# Altium schematic symbol library TVS.SchLib: 34 symbols
Pins are listed as number, name and electrical type; pins without a type are passive.

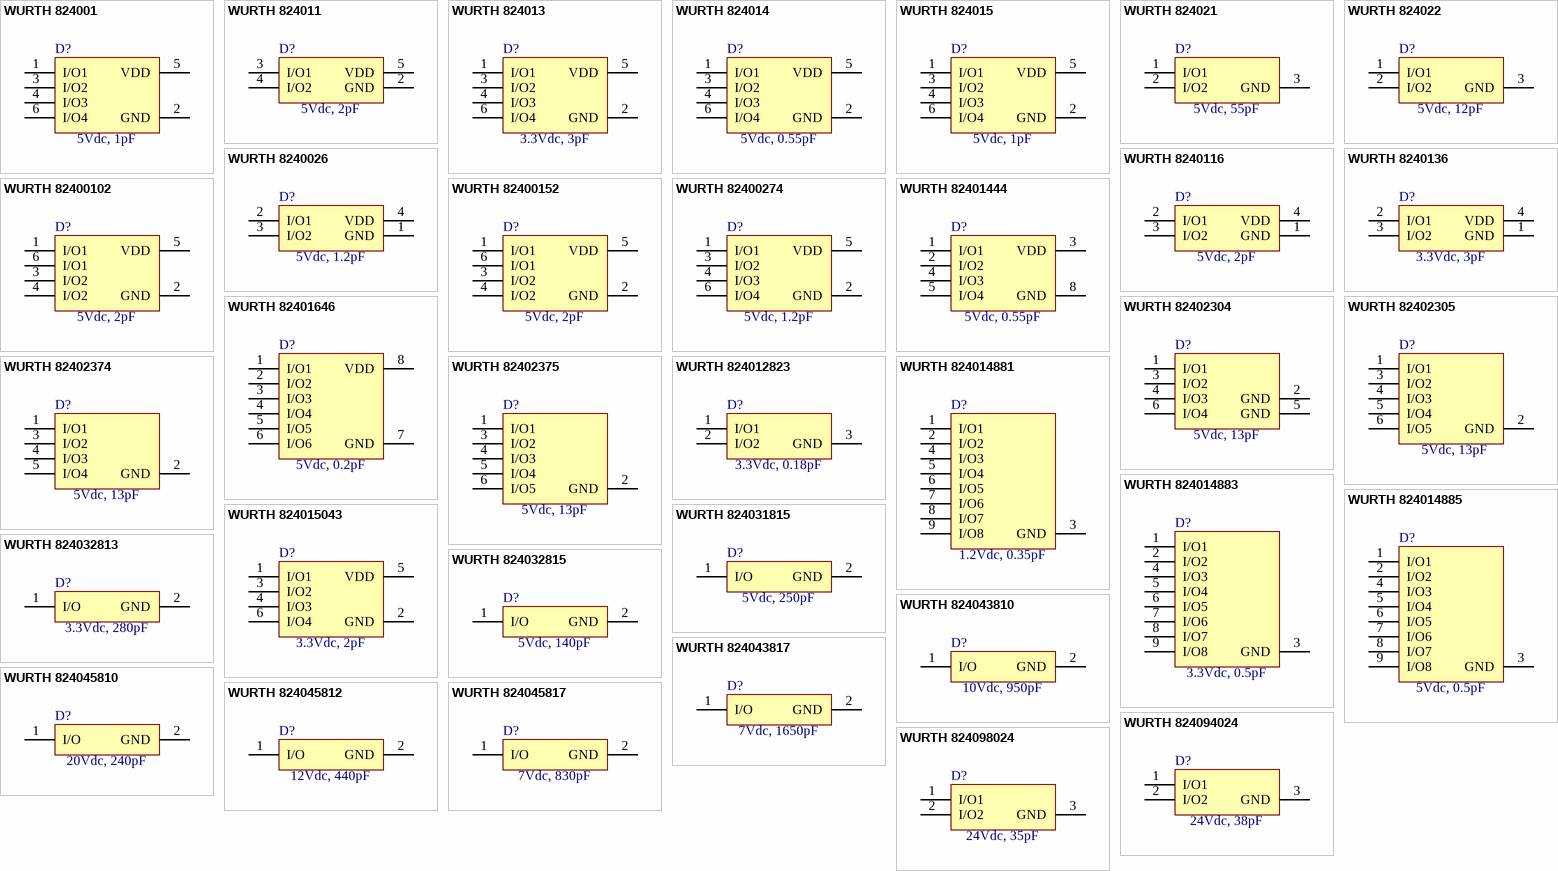
[diagram p0: symbols WURTH 824001 to WURTH 824098024]

## WURTH 824001
designator D?, comment 5Vdc, 1pF
WE-TVS TVS Diode – High Speed Series, SOT23-6L, 4+1 Channel, 5Vdc, 1pF; Manufacturer Part Number: 824001; Manufacturer: Wurth Elektronik; Reverse Peak Pulse Current: 5A; Channel ESD Clamping Voltage: 14V; Channel Operating Voltage: 5V; Channel Reverse Leakage Current: 2uA; ESD Air Discharge Capability: 15kV; ESD Contact Discharge Capability: 8kV; Polarity: Unidirectional; Reverse Breakdown Voltage: 6.2V; ComponentLink1Description: Manufacturer Link; ComponentLink1URL: http://www.we-online.de; ComponentLink2Description: Datasheet; ComponentLink2URL: https://www.we-online.com/catalog/datasheet/824001.pdf; Size: SOT23-6L; Mounting Technology: SMT; Packaging: Tape and Reel; Channel Input Capacitance: 1pF; Channel Number: 4+1; Height: 1.45mm; Length: 2.9mm; Operating Temperature max.: 125C; Operating Temperature min.: -40C; Width: 2.8mm
footprint WE-TVS_SOT23-6L
pins: 1 I/O1, 2 GND, 3 I/O2, 4 I/O3, 5 VDD, 6 I/O4

## WURTH 824011
designator D?, comment 5Vdc, 2pF
WE-TVS TVS Diode – High Speed Series, SOT23-5L, 2+1 Channel, 5Vdc, 2pF; Manufacturer Part Number: 824011; Manufacturer: Wurth Elektronik; Reverse Peak Pulse Current: 13A; Channel ESD Clamping Voltage: 13V; Channel Operating Voltage: 5V; Channel Reverse Leakage Current: 1uA; ESD Air Discharge Capability: 24kV; ESD Contact Discharge Capability: 16kV; Polarity: Unidirectional; Reverse Breakdown Voltage: 6.1V; ComponentLink1Description: Manufacturer Link; ComponentLink1URL: http://www.we-online.de; ComponentLink2Description: Datasheet; ComponentLink2URL: https://www.we-online.com/catalog/datasheet/824011.pdf; Size: SOT23-5L; Mounting Technology: SMT; Packaging: Tape and Reel; Channel Input Capacitance: 2pF; Channel Number: 2+1; Height: 1.16mm; Length: 2.9mm; Operating Temperature max.: 125C; Operating Temperature min.: -55C; Width: 2.8mm
footprint WE-TVS_SOT23-5L
pins: 2 GND, 3 I/O1, 4 I/O2, 5 VDD

## WURTH 824013
designator D?, comment 3.3Vdc, 3pF
WE-TVS TVS Diode – High Speed Series, SOT23-6L, 4+1 Channel, 3.3Vdc, 3pF; Manufacturer Part Number: 824013; Manufacturer: Wurth Elektronik; Reverse Peak Pulse Current: 12A; Channel ESD Clamping Voltage: 9V; Channel Operating Voltage: 3.3V; Channel Reverse Leakage Current: 1uA; ESD Air Discharge Capability: 30kV; ESD Contact Discharge Capability: 24kV; Polarity: Unidirectional; Reverse Breakdown Voltage: 4.5V; ComponentLink1Description: Manufacturer Link; ComponentLink1URL: http://www.we-online.de; ComponentLink2Description: Datasheet; ComponentLink2URL: https://www.we-online.com/catalog/datasheet/824013.pdf; Size: SOT23-6L; Mounting Technology: SMT; Packaging: Tape and Reel; Channel Input Capacitance: 3pF; Channel Number: 4+1; Height: 1.45mm; Length: 2.9mm; Operating Temperature max.: 125C; Operating Temperature min.: -40C; Width: 2.8mm
footprint WE-TVS_SOT23-6L
pins: 1 I/O1, 2 GND, 3 I/O2, 4 I/O3, 5 VDD, 6 I/O4

## WURTH 824014
designator D?, comment 5Vdc, 0.55pF
WE-TVS TVS Diode – Super Speed Series, SOT23-6L, 4+1 Channel, 5Vdc, 0.55pF; Manufacturer Part Number: 824014; Manufacturer: Wurth Elektronik; Reverse Peak Pulse Current: 4A; Channel ESD Clamping Voltage: 12V; Channel Operating Voltage: 5V; Channel Reverse Leakage Current: 1uA; ESD Air Discharge Capability: 16kV; ESD Contact Discharge Capability: 10kV; Polarity: Unidirectional; Reverse Breakdown Voltage: 6V; ComponentLink1Description: Manufacturer Link; ComponentLink1URL: http://www.we-online.de; ComponentLink2Description: Datasheet; ComponentLink2URL: https://www.we-online.com/catalog/datasheet/824014.pdf; Size: SOT23-6L; Mounting Technology: SMT; Packaging: Tape and Reel; Channel Input Capacitance: 0.55pF; Channel Number: 4+1; Height: 1.45mm; Length: 2.9mm; Operating Temperature max.: 85C; Operating Temperature min.: -55C; Width: 2.8mm
footprint WE-TVS_SOT23-6L
pins: 1 I/O1, 2 GND, 3 I/O2, 4 I/O3, 5 VDD, 6 I/O4

## WURTH 824015
designator D?, comment 5Vdc, 1pF
WE-TVS TVS Diode – High Speed Series, SOT23-6L, 4+1 Channel, 5Vdc, 1pF; Manufacturer Part Number: 824015; Manufacturer: Wurth Elektronik; Reverse Peak Pulse Current: 12A; Channel ESD Clamping Voltage: 13V; Channel Operating Voltage: 5V; Channel Reverse Leakage Current: 1uA; ESD Air Discharge Capability: 20kV; ESD Contact Discharge Capability: 12kV; Polarity: Unidirectional; Reverse Breakdown Voltage: 6.1V; ComponentLink1Description: Manufacturer Link; ComponentLink1URL: http://www.we-online.de; ComponentLink2Description: Datasheet; ComponentLink2URL: https://www.we-online.com/catalog/datasheet/824015.pdf; Size: SOT23-6L; Mounting Technology: SMT; Packaging: Tape and Reel; Channel Input Capacitance: 1pF; Channel Number: 4+1; Height: 1.45mm; Length: 2.9mm; Operating Temperature max.: 125C; Operating Temperature min.: -40C; Width: 2.8mm
footprint WE-TVS_SOT23-6L
pins: 1 I/O1, 2 GND, 3 I/O2, 4 I/O3, 5 VDD, 6 I/O4

## WURTH 824021
designator D?, comment 5Vdc, 55pF
WE-TVS TVS Diode – Standard Series, SOT23-3L, 2 Channel, 5Vdc, 55pF; Manufacturer Part Number: 824021; Manufacturer: Wurth Elektronik; Reverse Peak Pulse Current: 15A; Channel ESD Clamping Voltage: 10V; Channel Number: 2; Channel Operating Voltage: 5V; Channel Reverse Leakage Current: 2.5uA; ESD Air Discharge Capability: 30kV; ESD Contact Discharge Capability: 18kV; Polarity: Unidirectional; Reverse Breakdown Voltage: 6.1V; ComponentLink1Description: Manufacturer Link; ComponentLink1URL: http://www.we-online.de; ComponentLink2Description: Datasheet; ComponentLink2URL: https://www.we-online.com/catalog/datasheet/824021.pdf; Size: SOT23-3L; Mounting Technology: SMT; Packaging: Tape and Reel; Channel Input Capacitance: 55pF; Height: 1.1mm; Length: 2.9mm; Operating Temperature max.: 125C; Operating Temperature min.: -55C; Width: 2.4mm
footprint WE-TVS_SOT23-3L
pins: 1 I/O1, 2 I/O2, 3 GND

## WURTH 824022
designator D?, comment 5Vdc, 12pF
WE-TVS TVS Diode – Standard Series, SOT23-3L, 2 Channel, 5Vdc, 12pF; Manufacturer Part Number: 824022; Manufacturer: Wurth Elektronik; Reverse Peak Pulse Current: 8A; Channel ESD Clamping Voltage: 9V; Channel Number: 2; Channel Operating Voltage: 5V; Channel Reverse Leakage Current: 2.5uA; ESD Air Discharge Capability: 20kV; ESD Contact Discharge Capability: 12kV; Polarity: Bidirectional; Reverse Breakdown Voltage: 6.1V; ComponentLink1Description: Manufacturer Link; ComponentLink1URL: http://www.we-online.de; ComponentLink2Description: Datasheet; ComponentLink2URL: https://www.we-online.com/catalog/datasheet/824022.pdf; Size: SOT23-3L; Mounting Technology: SMT; Packaging: Tape and Reel; Channel Input Capacitance: 12pF; Height: 1.1mm; Length: 2.9mm; Operating Temperature max.: 125C; Operating Temperature min.: -55C; Width: 2.4mm
footprint WE-TVS_SOT23-3L
pins: 1 I/O1, 2 I/O2, 3 GND

## WURTH 8240026
designator D?, comment 5Vdc, 1.2pF
WE-TVS TVS Diode – High Speed Series, SOT143-4L, 2+1 Channel, 5Vdc, 1.2pF; Manufacturer Part Number: 8240026; Manufacturer: Wurth Elektronik; Reverse Peak Pulse Current: 6A; Channel ESD Clamping Voltage: 12.5V; Channel Operating Voltage: 5V; Channel Reverse Leakage Current: 1uA; ESD Air Discharge Capability: 16kV; ESD Contact Discharge Capability: 12kV; Polarity: Unidirectional; Reverse Breakdown Voltage: 6V; ComponentLink1Description: Manufacturer Link; ComponentLink1URL: http://www.we-online.de; ComponentLink2Description: Datasheet; ComponentLink2URL: https://www.we-online.com/catalog/datasheet/8240026.pdf; Size: SOT143-4L; Mounting Technology: SMT; Packaging: Tape and Reel; Channel Input Capacitance: 1.2pF; Channel Number: 2+1; Height: 1.08mm; Length: 2.95mm; Operating Temperature max.: 125C; Operating Temperature min.: -55C; Width: 2.4mm
footprint WE-TVS_SOT143-4L
pins: 1 GND, 2 I/O1, 3 I/O2, 4 VDD

## WURTH 8240116
designator D?, comment 5Vdc, 2pF
WE-TVS TVS Diode – High Speed Series, SOT143-4L, 2+1 Channel, 5Vdc, 2pF; Manufacturer Part Number: 8240116; Manufacturer: Wurth Elektronik; Reverse Peak Pulse Current: 12A; Channel ESD Clamping Voltage: 13V; Channel Operating Voltage: 5V; Channel Reverse Leakage Current: 1uA; ESD Air Discharge Capability: 20kV; ESD Contact Discharge Capability: 12kV; Polarity: Unidirectional; Reverse Breakdown Voltage: 6.1V; ComponentLink1Description: Manufacturer Link; ComponentLink1URL: http://www.we-online.de; ComponentLink2Description: Datasheet; ComponentLink2URL: https://www.we-online.com/catalog/datasheet/8240116.pdf; Size: SOT143-4L; Mounting Technology: SMT; Packaging: Tape and Reel; Channel Input Capacitance: 2pF; Channel Number: 2+1; Height: 1.08mm; Length: 2.95mm; Operating Temperature max.: 125C; Operating Temperature min.: -55C; Width: 2.4mm
footprint WE-TVS_SOT143-4L
pins: 1 GND, 2 I/O1, 3 I/O2, 4 VDD

## WURTH 8240136
designator D?, comment 3.3Vdc, 3pF
WE-TVS TVS Diode – High Speed Series, SOT143-4L, 2+1 Channel, 3.3Vdc, 3pF; Manufacturer Part Number: 8240136; Manufacturer: Wurth Elektronik; Reverse Peak Pulse Current: 12A; Channel ESD Clamping Voltage: 9V; Channel Operating Voltage: 3.3V; Channel Reverse Leakage Current: 1uA; ESD Air Discharge Capability: 30kV; ESD Contact Discharge Capability: 24kV; Polarity: Unidirectional; Reverse Breakdown Voltage: 4.5V; ComponentLink1Description: Manufacturer Link; ComponentLink1URL: http://www.we-online.de; ComponentLink2Description: Datasheet; ComponentLink2URL: https://www.we-online.com/catalog/datasheet/8240136.pdf; Size: SOT143-4L; Mounting Technology: SMT; Packaging: Tape and Reel; Channel Input Capacitance: 3pF; Channel Number: 2+1; Height: 1.08mm; Length: 2.95mm; Operating Temperature max.: 125C; Operating Temperature min.: -55C; Width: 2.4mm
footprint WE-TVS_SOT143-4L
pins: 1 GND, 2 I/O1, 3 I/O2, 4 VDD

## WURTH 82400102
designator D?, comment 5Vdc, 2pF
WE-TVS TVS Diode – High Speed Series, SOT23-6L, 2+1 Channel, 5Vdc, 2pF; Manufacturer Part Number: 82400102; Manufacturer: Wurth Elektronik; Reverse Peak Pulse Current: 7A; Channel ESD Clamping Voltage: 10V; Channel Operating Voltage: 5V; Channel Reverse Leakage Current: 1uA; ESD Air Discharge Capability: 15kV; ESD Contact Discharge Capability: 8kV; Polarity: Unidirectional; Reverse Breakdown Voltage: 6V; ComponentLink1Description: Manufacturer Link; ComponentLink1URL: http://www.we-online.de; ComponentLink2Description: Datasheet; ComponentLink2URL: https://www.we-online.com/catalog/datasheet/82400102.pdf; Size: SOT23-6L; Mounting Technology: SMT; Packaging: Tape and Reel; Channel Input Capacitance: 2pF; Channel Number: 2+1; Height: 1.45mm; Length: 2.9mm; Operating Temperature max.: 125C; Operating Temperature min.: -40C; Width: 2.8mm
footprint WE-TVS_SOT23-6L
pins: 1 I/O1, 2 GND, 3 I/O2, 4 I/O2, 5 VDD, 6 I/O1

## WURTH 82400152
designator D?, comment 5Vdc, 2pF
WE-TVS TVS Diode – High Speed Series, SOT563, 2+1 Channel, 5Vdc, 2pF; Manufacturer Part Number: 82400152; Manufacturer: Wurth Elektronik; Reverse Peak Pulse Current: 6A; Channel ESD Clamping Voltage: 10V; Channel Operating Voltage: 5V; Channel Reverse Leakage Current: 1uA; ESD Air Discharge Capability: 15kV; ESD Contact Discharge Capability: 8kV; Polarity: Unidirectional; Reverse Breakdown Voltage: 6V; ComponentLink1Description: Manufacturer Link; ComponentLink1URL: http://www.we-online.de; ComponentLink2Description: Datasheet; ComponentLink2URL: https://www.we-online.com/catalog/datasheet/82400152.pdf; Size: SOT563; Mounting Technology: SMT; Packaging: Tape and Reel; Channel Input Capacitance: 2pF; Channel Number: 2+1; Height: 0.55mm; Length: 1.6mm; Operating Temperature max.: 125C; Operating Temperature min.: -40C; Width: 1.6mm
footprint WE-TVS_SOT563
pins: 1 I/O1, 2 GND, 3 I/O2, 4 I/O2, 5 VDD, 6 I/O1

## WURTH 82400274
designator D?, comment 5Vdc, 1.2pF
WE-TVS TVS Diode – High Speed Series, SC70-6L, 4+1 Channel, 5Vdc, 1.2pF; Manufacturer Part Number: 82400274; Manufacturer: Wurth Elektronik; Reverse Peak Pulse Current: 6A; Channel ESD Clamping Voltage: 12.5V; Channel Operating Voltage: 5V; Channel Reverse Leakage Current: 1uA; ESD Air Discharge Capability: 16kV; ESD Contact Discharge Capability: 12kV; Polarity: Unidirectional; Reverse Breakdown Voltage: 6V; ComponentLink1Description: Manufacturer Link; ComponentLink1URL: http://www.we-online.de; ComponentLink2Description: Datasheet; ComponentLink2URL: https://www.we-online.com/catalog/datasheet/82400274.pdf; Size: SC70-6L; Mounting Technology: SMT; Packaging: Tape and Reel; Channel Input Capacitance: 1.2pF; Channel Number: 4+1; Height: 1mm; Length: 2mm; Operating Temperature max.: 85C; Operating Temperature min.: -55C; Width: 2.1mm
footprint WE-TVS_SC70-6L
pins: 1 I/O1, 2 GND, 3 I/O2, 4 I/O3, 5 VDD, 6 I/O4

## WURTH 82401444
designator D?, comment 5Vdc, 0.55pF
WE-TVS TVS Diode – Super Speed Series, MSOP-10L, 4+1 Channel, 5Vdc, 0.55pF; Manufacturer Part Number: 82401444; Manufacturer: Wurth Elektronik; Reverse Peak Pulse Current: 5A; Channel ESD Clamping Voltage: 12V; Channel Operating Voltage: 5V; Channel Reverse Leakage Current: 1uA; ESD Air Discharge Capability: 16kV; ESD Contact Discharge Capability: 10kV; Polarity: Unidirectional; Reverse Breakdown Voltage: 6V; ComponentLink1Description: Manufacturer Link; ComponentLink1URL: http://www.we-online.de; ComponentLink2Description: Datasheet; ComponentLink2URL: https://www.we-online.com/catalog/datasheet/82401444.pdf; Size: MSOP-10L; Mounting Technology: SMT; Packaging: Tape and Reel; Channel Input Capacitance: 0.55pF; Channel Number: 4+1; Height: 0.96mm; Length: 3mm; Operating Temperature max.: 85C; Operating Temperature min.: -55C; Width: 4.9mm
footprint WE-TVS_MSOP-10L
pins: 1 I/O1, 2 I/O2, 3 VDD, 4 I/O3, 5 I/O4, 8 GND

## WURTH 82401646
designator D?, comment 5Vdc, 0.2pF
WE-TVS TVS Diode – Super Speed Series, MSOP-8L, 6+1 Channel, 5Vdc, 0.2pF; Manufacturer Part Number: 82401646; Manufacturer: Wurth Elektronik; Reverse Peak Pulse Current: 2.5A; Channel ESD Clamping Voltage: 13V; Channel Operating Voltage: 5V; Channel Reverse Leakage Current: 1uA; ESD Air Discharge Capability: 15kV; ESD Contact Discharge Capability: 8kV; Polarity: Unidirectional; Reverse Breakdown Voltage: 6V; ComponentLink1Description: Manufacturer Link; ComponentLink1URL: http://www.we-online.de; ComponentLink2Description: Datasheet; ComponentLink2URL: https://www.we-online.com/catalog/datasheet/82401646.pdf; Size: MSOP-8L; Mounting Technology: SMT; Packaging: Tape and Reel; Channel Input Capacitance: 0.2pF; Channel Number: 6+1; Height: 0.96mm; Length: 3mm; Operating Temperature max.: 85C; Operating Temperature min.: -55C; Width: 4.9mm
footprint WE-TVS_MSOP-8L
pins: 1 I/O1, 2 I/O2, 3 I/O3, 4 I/O4, 5 I/O5, 6 I/O6, 7 GND, 8 VDD

## WURTH 82402304
designator D?, comment 5Vdc, 13pF
WE-TVS TVS Diode – Standard Series, SOT23-6L, 4 Channel, 5Vdc, 13pF; Manufacturer Part Number: 82402304; Manufacturer: Wurth Elektronik; Reverse Peak Pulse Current: 6A; Channel ESD Clamping Voltage: 8.5V; Channel Number: 4; Channel Operating Voltage: 5V; Channel Reverse Leakage Current: 2.5uA; ESD Air Discharge Capability: 16kV; ESD Contact Discharge Capability: 10kV; Polarity: Unidirectional; Reverse Breakdown Voltage: 6V; ComponentLink1Description: Manufacturer Link; ComponentLink1URL: http://www.we-online.de; ComponentLink2Description: Datasheet; ComponentLink2URL: https://www.we-online.com/catalog/datasheet/82402304.pdf; Size: SOT23-6L; Mounting Technology: SMT; Packaging: Tape and Reel; Channel Input Capacitance: 13pF; Height: 1.45mm; Length: 2.9mm; Operating Temperature max.: 85C; Operating Temperature min.: -55C; Width: 2.8mm
footprint WE-TVS_SOT23-6L
pins: 1 I/O1, 2 GND, 3 I/O2, 4 I/O3, 5 GND, 6 I/O4

## WURTH 82402305
designator D?, comment 5Vdc, 13pF
WE-TVS TVS Diode – Standard Series, SOT23-6L, 5 Channel, 5Vdc, 13pF; Manufacturer Part Number: 82402305; Manufacturer: Wurth Elektronik; Reverse Peak Pulse Current: 6A; Channel ESD Clamping Voltage: 8V; Channel Number: 5; Channel Operating Voltage: 5V; Channel Reverse Leakage Current: 2.5uA; ESD Air Discharge Capability: 16kV; ESD Contact Discharge Capability: 10kV; Polarity: Unidirectional; Reverse Breakdown Voltage: 6V; ComponentLink1Description: Manufacturer Link; ComponentLink1URL: http://www.we-online.de; ComponentLink2Description: Datasheet; ComponentLink2URL: https://www.we-online.com/catalog/datasheet/82402305.pdf; Size: SOT23-6L; Mounting Technology: SMT; Packaging: Tape and Reel; Channel Input Capacitance: 13pF; Height: 1.45mm; Length: 2.9mm; Operating Temperature max.: 85C; Operating Temperature min.: -55C; Width: 2.8mm
footprint WE-TVS_SOT23-6L
pins: 1 I/O1, 2 GND, 3 I/O2, 4 I/O3, 5 I/O4, 6 I/O5

## WURTH 82402374
designator D?, comment 5Vdc, 13pF
WE-TVS TVS Diode – Standard Series, SC70-5L, 4 Channel, 5Vdc, 13pF; Manufacturer Part Number: 82402374; Manufacturer: Wurth Elektronik; Reverse Peak Pulse Current: 6A; Channel ESD Clamping Voltage: 8.5V; Channel Number: 4; Channel Operating Voltage: 5V; Channel Reverse Leakage Current: 2.5uA; ESD Air Discharge Capability: 16kV; ESD Contact Discharge Capability: 10kV; Polarity: Unidirectional; Reverse Breakdown Voltage: 6V; ComponentLink1Description: Manufacturer Link; ComponentLink1URL: http://www.we-online.de; ComponentLink2Description: Datasheet; ComponentLink2URL: https://www.we-online.com/catalog/datasheet/82402374.pdf; Size: SC70-5L; Mounting Technology: SMT; Packaging: Tape and Reel; Channel Input Capacitance: 13pF; Height: 1mm; Length: 2mm; Operating Temperature max.: 85C; Operating Temperature min.: -55C; Width: 2.1mm
footprint WE-TVS_SC70-5L
pins: 1 I/O1, 2 GND, 3 I/O2, 4 I/O3, 5 I/O4

## WURTH 82402375
designator D?, comment 5Vdc, 13pF
WE-TVS TVS Diode – Standard Series, SC70-6L, 5 Channel, 5Vdc, 13pF; Manufacturer Part Number: 82402375; Manufacturer: Wurth Elektronik; Reverse Peak Pulse Current: 6A; Channel ESD Clamping Voltage: 8V; Channel Number: 5; Channel Operating Voltage: 5V; Channel Reverse Leakage Current: 2.5uA; ESD Air Discharge Capability: 16kV; ESD Contact Discharge Capability: 10kV; Polarity: Unidirectional; Reverse Breakdown Voltage: 6V; ComponentLink1Description: Manufacturer Link; ComponentLink1URL: http://www.we-online.de; ComponentLink2Description: Datasheet; ComponentLink2URL: https://www.we-online.com/catalog/datasheet/82402375.pdf; Size: SC70-6L; Mounting Technology: SMT; Packaging: Tape and Reel; Channel Input Capacitance: 13pF; Height: 1mm; Length: 2mm; Operating Temperature max.: 85C; Operating Temperature min.: -55C; Width: 2.1mm
footprint WE-TVS_SC70-6L
pins: 1 I/O1, 2 GND, 3 I/O2, 4 I/O3, 5 I/O4, 6 I/O5

## WURTH 824012823
designator D?, comment 3.3Vdc, 0.18pF
WE-TVS TVS Diode – Super Speed Series, DFN1210-6L, 2 Channel, 3.3Vdc, 0.18pF; Manufacturer Part Number: 824012823; Manufacturer: Wurth Elektronik; Reverse Peak Pulse Current: 3A; Channel ESD Clamping Voltage: 13V; Channel Number: 2; Channel Operating Voltage: 3.3V; Channel Reverse Leakage Current: 0.5uA; ESD Air Discharge Capability: 15kV; ESD Contact Discharge Capability: 8kV; Polarity: Unidirectional; Reverse Breakdown Voltage: 4.5V; ComponentLink1Description: Manufacturer Link; ComponentLink1URL: http://www.we-online.de; ComponentLink2Description: Datasheet; ComponentLink2URL: https://www.we-online.com/catalog/datasheet/824012823.pdf; Size: DFN1210-6L; Mounting Technology: SMT; Packaging: Tape and Reel; Channel Input Capacitance: 0.18pF; Height: 0.45mm; Length: 1.2mm; Operating Temperature max.: 85C; Operating Temperature min.: -55C; Width: 1mm
footprint WE-TVS_DFN1210-6L
pins: 1 I/O1, 2 I/O2, 3 GND

## WURTH 824014881
designator D?, comment 1.2Vdc, 0.35pF
WE-TVS TVS Diode – Super Speed Series, DFN3810-9L, 8 Channel, 1.2Vdc, 0.35pF; Manufacturer Part Number: 824014881; Manufacturer: Wurth Elektronik; Reverse Peak Pulse Current: 4A; Channel ESD Clamping Voltage: 7V; Channel Number: 8; Channel Operating Voltage: 1.2V; Channel Reverse Leakage Current: 0.5uA; ESD Air Discharge Capability: 15kV; ESD Contact Discharge Capability: 10kV; Polarity: Unidirectional; Reverse Breakdown Voltage: 4.5V; ComponentLink1Description: Manufacturer Link; ComponentLink1URL: http://www.we-online.de; ComponentLink2Description: Datasheet; ComponentLink2URL: https://www.we-online.com/catalog/datasheet/824014881.pdf; Size: DFN3810-9L; Mounting Technology: SMT; Packaging: Tape and Reel; Channel Input Capacitance: 0.35pF; Height: 0.5mm; Length: 3.8mm; Operating Temperature max.: 85C; Operating Temperature min.: -55C; Width: 1mm
footprint WE-TVS_DFN3810-9L
pins: 1 I/O1, 2 I/O2, 3 GND, 4 I/O3, 5 I/O4, 6 I/O5, 7 I/O6, 8 I/O7, 9 I/O8

## WURTH 824014883
designator D?, comment 3.3Vdc, 0.5pF
WE-TVS TVS Diode – Super Speed Series, DFN3810-9L, 8 Channel, 3.3Vdc, 0.5pF; Manufacturer Part Number: 824014883; Manufacturer: Wurth Elektronik; Reverse Peak Pulse Current: 5A; Channel ESD Clamping Voltage: 9V; Channel Number: 8; Channel Operating Voltage: 3.3V; Channel Reverse Leakage Current: 1uA; ESD Air Discharge Capability: 15kV; ESD Contact Discharge Capability: 12kV; Polarity: Unidirectional; Reverse Breakdown Voltage: 4.5V; ComponentLink1Description: Manufacturer Link; ComponentLink1URL: http://www.we-online.de; ComponentLink2Description: Datasheet; ComponentLink2URL: https://www.we-online.com/catalog/datasheet/824014883.pdf; Size: DFN3810-9L; Mounting Technology: SMT; Packaging: Tape and Reel; Channel Input Capacitance: 0.5pF; Height: 0.5mm; Length: 3.8mm; Operating Temperature max.: 85C; Operating Temperature min.: -55C; Width: 1mm
footprint WE-TVS_DFN3810-9L
pins: 1 I/O1, 2 I/O2, 3 GND, 4 I/O3, 5 I/O4, 6 I/O5, 7 I/O6, 8 I/O7, 9 I/O8

## WURTH 824014885
designator D?, comment 5Vdc, 0.5pF
WE-TVS TVS Diode – Super Speed Series, DFN3810-9L, 8 Channel, 5Vdc, 0.5pF; Manufacturer Part Number: 824014885; Manufacturer: Wurth Elektronik; Reverse Peak Pulse Current: 5A; Channel ESD Clamping Voltage: 10.5V; Channel Number: 8; Channel Operating Voltage: 5V; Channel Reverse Leakage Current: 1uA; ESD Air Discharge Capability: 15kV; Polarity: Unidirectional; Reverse Breakdown Voltage: 6V; ComponentLink1Description: Manufacturer Link; ComponentLink1URL: http://www.we-online.de; ComponentLink2Description: Datasheet; ComponentLink2URL: https://www.we-online.com/catalog/datasheet/824014885.pdf; Size: DFN3810-9L; Mounting Technology: SMT; Packaging: Tape and Reel; Channel Input Capacitance: 0.5pF; ESD Contact Discharge Capability: 15kV; Height: 0.5mm; Length: 3.8mm; Operating Temperature max.: 85C; Operating Temperature min.: -55C; Width: 1mm
footprint WE-TVS_DFN3810-9L
pins: 1 I/O1, 2 I/O2, 3 GND, 4 I/O3, 5 I/O4, 6 I/O5, 7 I/O6, 8 I/O7, 9 I/O8

## WURTH 824015043
designator D?, comment 3.3Vdc, 2pF
WE-TVS TVS Diode – High Speed Series, SOT23-6L, 4+1 Channel, 3.3Vdc, 2pF; Manufacturer Part Number: 824015043; Manufacturer: Wurth Elektronik; Reverse Peak Pulse Current: 30A; Channel ESD Clamping Voltage: 7.5V; Channel Operating Voltage: 3.3V; Channel Reverse Leakage Current: 1uA; ESD Air Discharge Capability: 30kV; Polarity: Unidirectional; Reverse Breakdown Voltage: 4.5V; ComponentLink1Description: Manufacturer Link; ComponentLink1URL: http://www.we-online.de; ComponentLink2Description: Datasheet; ComponentLink2URL: https://www.we-online.com/catalog/datasheet/824015043.pdf; Size: SOT23-6L; Mounting Technology: SMT; Packaging: Tape and Reel; Channel Input Capacitance: 2pF; Channel Number: 4+1; ESD Contact Discharge Capability: 30kV; Height: 1.45mm; Length: 2.9mm; Operating Temperature max.: 125C; Operating Temperature min.: -55C; Width: 2.8mm
footprint WE-TVS_SOT23-6L
pins: 1 I/O1, 2 GND, 3 I/O2, 4 I/O3, 5 VDD, 6 I/O4

## WURTH 824031815
designator D?, comment 5Vdc, 250pF
WE-TVS TVS Diode – Standard Series, DFN1610-2L, 1 Channel, 5Vdc, 250pF; Manufacturer Part Number: 824031815; Manufacturer: Wurth Elektronik; Reverse Peak Pulse Current: 80A; Channel ESD Clamping Voltage: 6V; Channel Number: 1; Channel Operating Voltage: 5V; Channel Reverse Leakage Current: 1uA; ESD Air Discharge Capability: 30kV; Polarity: Unidirectional; ComponentLink1Description: Manufacturer Link; ComponentLink1URL: http://www.we-online.de; ComponentLink2Description: Datasheet; ComponentLink2URL: https://www.we-online.com/catalog/datasheet/824031815.pdf; Size: DFN1610-2L; Mounting Technology: SMT; Packaging: Tape and Reel; Channel Input Capacitance: 250pF; ESD Contact Discharge Capability: 30kV; Height: 0.5mm; Length: 1.6mm; Operating Temperature max.: 85C; Operating Temperature min.: -55C; Reverse Breakdown Voltage: 6V; Width: 1mm
footprint WE-TVS_DFN1610-2L
pins: 1 I/O, 2 GND

## WURTH 824032813
designator D?, comment 3.3Vdc, 280pF
WE-TVS TVS Diode – Standard Series, DFN1610-2L, 1 Channel, 3.3Vdc, 280pF; Manufacturer Part Number: 824032813; Manufacturer: Wurth Elektronik; Reverse Peak Pulse Current: 180A; Channel ESD Clamping Voltage: 4.7V; Channel Number: 1; Channel Operating Voltage: 3.3V; Channel Reverse Leakage Current: 0.5uA; ESD Air Discharge Capability: 30kV; Polarity: Bidirectional; Reverse Breakdown Voltage: 4V; ComponentLink1Description: Manufacturer Link; ComponentLink1URL: http://www.we-online.de; ComponentLink2Description: Datasheet; ComponentLink2URL: https://www.we-online.com/catalog/datasheet/824032813.pdf; Size: DFN1610-2L; Mounting Technology: SMT; Packaging: Tape and Reel; Channel Input Capacitance: 280pF; ESD Contact Discharge Capability: 30kV; Height: 0.5mm; Length: 1.6mm; Operating Temperature max.: 85C; Operating Temperature min.: -55C; Width: 1mm
footprint WE-TVS_DFN1610-2L
pins: 1 I/O, 2 GND

## WURTH 824032815
designator D?, comment 5Vdc, 140pF
WE-TVS TVS Diode – Standard Series, DFN1610-2L, 1 Channel, 5Vdc, 140pF; Manufacturer Part Number: 824032815; Manufacturer: Wurth Elektronik; Reverse Peak Pulse Current: 100A; Channel ESD Clamping Voltage: 6V; Channel Number: 1; Channel Operating Voltage: 5V; Channel Reverse Leakage Current: 1uA; ESD Air Discharge Capability: 30kV; Polarity: Bidirectional; ComponentLink1Description: Manufacturer Link; ComponentLink1URL: http://www.we-online.de; ComponentLink2Description: Datasheet; ComponentLink2URL: https://www.we-online.com/catalog/datasheet/824032815.pdf; Size: DFN1610-2L; Mounting Technology: SMT; Packaging: Tape and Reel; Channel Input Capacitance: 140pF; ESD Contact Discharge Capability: 30kV; Height: 0.5mm; Length: 1.6mm; Operating Temperature max.: 85C; Operating Temperature min.: -55C; Reverse Breakdown Voltage: 6V; Width: 1mm
footprint WE-TVS_DFN1610-2L
pins: 1 I/O, 2 GND

## WURTH 824043810
designator D?, comment 10Vdc, 950pF
WE-TVS TVS Diode – Standard Series, DFN2020-2L, 1 Channel, 10Vdc, 950pF; Manufacturer Part Number: 824043810; Manufacturer: Wurth Elektronik; Reverse Peak Pulse Current: 150A; Channel ESD Clamping Voltage: 13V; Channel Number: 1; Channel Operating Voltage: 10V; Channel Reverse Leakage Current: 1uA; ESD Air Discharge Capability: 30kV; Polarity: Unidirectional; Reverse Breakdown Voltage: 11.2V; ComponentLink1Description: Manufacturer Link; ComponentLink1URL: http://www.we-online.de; ComponentLink2Description: Datasheet; ComponentLink2URL: https://www.we-online.com/catalog/datasheet/824043810.pdf; Size: DFN2020-2L; Mounting Technology: SMT; Packaging: Tape and Reel; Channel Input Capacitance: 950pF; ESD Contact Discharge Capability: 30kV; Height: 0.5mm; Length: 2mm; Operating Temperature max.: 85C; Operating Temperature min.: -55C; Width: 2mm
footprint WE-TVS_DFN2020-2L
pins: 1 I/O, 2 GND

## WURTH 824043817
designator D?, comment 7Vdc, 1650pF
WE-TVS TVS Diode – Standard Series, DFN2020-2L, 1 Channel, 7Vdc, 1650pF; Manufacturer Part Number: 824043817; Manufacturer: Wurth Elektronik; Reverse Peak Pulse Current: 180A; Channel ESD Clamping Voltage: 9.5V; Channel Number: 1; Channel Operating Voltage: 7V; Channel Reverse Leakage Current: 1uA; ESD Air Discharge Capability: 30kV; Polarity: Unidirectional; Reverse Breakdown Voltage: 7.8V; ComponentLink1Description: Manufacturer Link; ComponentLink1URL: http://www.we-online.de; ComponentLink2Description: Datasheet; ComponentLink2URL: https://www.we-online.com/catalog/datasheet/824043817.pdf; Size: DFN2020-2L; Mounting Technology: SMT; Packaging: Tape and Reel; Channel Input Capacitance: 1650pF; ESD Contact Discharge Capability: 30kV; Height: 0.5mm; Length: 2mm; Operating Temperature max.: 85C; Operating Temperature min.: -55C; Width: 2mm
footprint WE-TVS_DFN2020-2L
pins: 1 I/O, 2 GND

## WURTH 824045810
designator D?, comment 20Vdc, 240pF
WE-TVS TVS Diode – Standard Series, DFN1610-2L, 1 Channel, 20Vdc, 240pF; Manufacturer Part Number: 824045810; Manufacturer: Wurth Elektronik; Reverse Peak Pulse Current: 24A; Channel ESD Clamping Voltage: 25.5V; Channel Number: 1; Channel Operating Voltage: 20V; Channel Reverse Leakage Current: 1uA; ESD Air Discharge Capability: 30kV; Polarity: Unidirectional; Reverse Breakdown Voltage: 22.8V; ComponentLink1Description: Manufacturer Link; ComponentLink1URL: http://www.we-online.de; ComponentLink2Description: Datasheet; ComponentLink2URL: https://www.we-online.com/catalog/datasheet/824045810.pdf; Size: DFN1610-2L; Mounting Technology: SMT; Packaging: Tape and Reel; Channel Input Capacitance: 240pF; ESD Contact Discharge Capability: 30kV; Height: 0.5mm; Length: 1.6mm; Operating Temperature max.: 85C; Operating Temperature min.: -55C; Width: 1mm
footprint WE-TVS_DFN1610-2L
pins: 1 I/O, 2 GND

## WURTH 824045812
designator D?, comment 12Vdc, 440pF
WE-TVS TVS Diode – Standard Series, DFN1610-2L, 1 Channel, 12Vdc, 440pF; Manufacturer Part Number: 824045812; Manufacturer: Wurth Elektronik; Reverse Peak Pulse Current: 38A; Channel ESD Clamping Voltage: 15V; Channel Number: 1; Channel Operating Voltage: 12V; Channel Reverse Leakage Current: 0.1uA; ESD Air Discharge Capability: 30kV; Polarity: Unidirectional; Reverse Breakdown Voltage: 13.3V; ComponentLink1Description: Manufacturer Link; ComponentLink1URL: http://www.we-online.de; ComponentLink2Description: Datasheet; ComponentLink2URL: https://www.we-online.com/catalog/datasheet/824045812.pdf; Size: DFN1610-2L; Mounting Technology: SMT; Packaging: Tape and Reel; Channel Input Capacitance: 440pF; ESD Contact Discharge Capability: 30kV; Height: 0.5mm; Length: 1.6mm; Operating Temperature max.: 85C; Operating Temperature min.: -55C; Width: 1mm
footprint WE-TVS_DFN1610-2L
pins: 1 I/O, 2 GND

## WURTH 824045817
designator D?, comment 7Vdc, 830pF
WE-TVS TVS Diode – Standard Series, DFN1610-2L, 1 Channel, 7Vdc, 830pF; Manufacturer Part Number: 824045817; Manufacturer: Wurth Elektronik; Reverse Peak Pulse Current: 60A; Channel ESD Clamping Voltage: 10V; Channel Number: 1; Channel Operating Voltage: 7V; Channel Reverse Leakage Current: 1uA; ESD Air Discharge Capability: 30kV; Polarity: Unidirectional; Reverse Breakdown Voltage: 7.8V; ComponentLink1Description: Manufacturer Link; ComponentLink1URL: http://www.we-online.de; ComponentLink2Description: Datasheet; ComponentLink2URL: https://www.we-online.com/catalog/datasheet/824045817.pdf; Size: DFN1610-2L; Mounting Technology: SMT; Packaging: Tape and Reel; Channel Input Capacitance: 830pF; ESD Contact Discharge Capability: 30kV; Height: 0.5mm; Length: 1.6mm; Operating Temperature max.: 85C; Operating Temperature min.: -55C; Width: 1mm
footprint WE-TVS_DFN1610-2L
pins: 1 I/O, 2 GND

## WURTH 824094024
designator D?, comment 24Vdc, 38pF
WE-TVS TVS Diode – Standard Series, SOT23-3L, 2 Channel, 24Vdc, 38pF; Manufacturer Part Number: 824094024; Manufacturer: Wurth Elektronik; Reverse Peak Pulse Current: 6A; Channel ESD Clamping Voltage: 31V; Channel Number: 2; Channel Operating Voltage: 24V; Channel Reverse Leakage Current: 0.1uA; ESD Air Discharge Capability: 30kV; Polarity: Bidirectional; Reverse Breakdown Voltage: 26.2V; ComponentLink1Description: Manufacturer Link; ComponentLink1URL: http://www.we-online.de; ComponentLink2Description: Datasheet; ComponentLink2URL: https://www.we-online.com/catalog/datasheet/824094024.pdf; Size: SOT23-3L; Mounting Technology: SMT; Packaging: Tape and Reel; Channel Input Capacitance: 38pF; ESD Contact Discharge Capability: 30kV; Height: 1.1mm; Length: 2.9mm; Operating Temperature max.: 125C; Operating Temperature min.: -55C; Width: 2.4mm
footprint WE-TVS_SOT23-3L
pins: 1 I/O1, 2 I/O2, 3 GND

## WURTH 824098024
designator D?, comment 24Vdc, 35pF
WE-TVS TVS Diode – Standard Series, SOT23-3L, 2 Channel, 24Vdc, 35pF; Manufacturer Part Number: 824098024; Manufacturer: Wurth Elektronik; Reverse Peak Pulse Current: 6A; Channel ESD Clamping Voltage: 32.5V; Channel Number: 2; Channel Operating Voltage: 24V; Channel Reverse Leakage Current: 0.5uA; ESD Air Discharge Capability: 30kV; Polarity: Bidirectional; Reverse Breakdown Voltage: 26.2V; ComponentLink1Description: Manufacturer Link; ComponentLink1URL: http://www.we-online.de; ComponentLink2Description: Datasheet; ComponentLink2URL: https://www.we-online.com/catalog/datasheet/824098024.pdf; Size: SOT23-3L; Mounting Technology: SMT; Packaging: Tape and Reel; Channel Input Capacitance: 35pF; ESD Contact Discharge Capability: 30kV; Height: 1.1mm; Length: 2.9mm; Operating Temperature max.: 125C; Operating Temperature min.: -55C; Width: 2.4mm
footprint WE-TVS_SOT23-3L
pins: 1 I/O1, 2 I/O2, 3 GND